# EAGLE library part LSM6DS3 (library TrackerPeripherals)
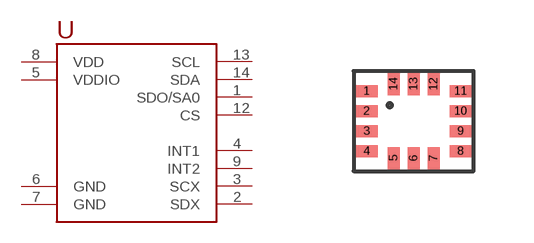
[diagram p4: symbol with the pads of 14-LGA; footprint 14-LGA]

Designator prefix U

## LSM6DS3  [14-LGA]
1  SDO/SA0
2  SDX
3  SCX
4  INT1
5  VDDIO
6  GND
7  GND
8  VDD
9  INT2
12  CS
13  SCL
14  SDA

## Footprint 14-LGA (pad centres in mm)
smd 0.55 x 0.3: 1 -1.175,0.75; 2 -1.175,0.25; 3 -1.175,-0.25; 4 -1.175,-0.75; 8 1.175,-0.75; 9 1.175,-0.25; 10 1.175,0.25; 11 1.175,0.75
smd 0.3 x 0.55: 5 -0.5,-0.925; 6 0,-0.925; 7 0.5,-0.925; 12 0.5,0.925; 13 0,0.925; 14 -0.5,0.925